# Altium schematic symbol library ceramic cap.SchLib: 1 symbol
Pins are listed as number, name and electrical type; pins without a type are passive.

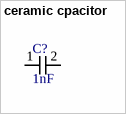
[diagram p0: symbol ceramic cpacitor]

## ceramic cpacitor
designator C?, comment 1nF
footprint ceramic capacitor
pins: 1, 2